# Altium footprint library CHIPFET.PcbLib: 1 footprints
Each footprint in its own frame and in the unit in brackets; x right, y up, seen from the top. Pads: shape width x height; smd on the part's side, far side on the other; paste and mask are expansions set on the pad; w line width, h text height; cw(c..) or ccw(c..) is an arc to the next point about the centre after c.
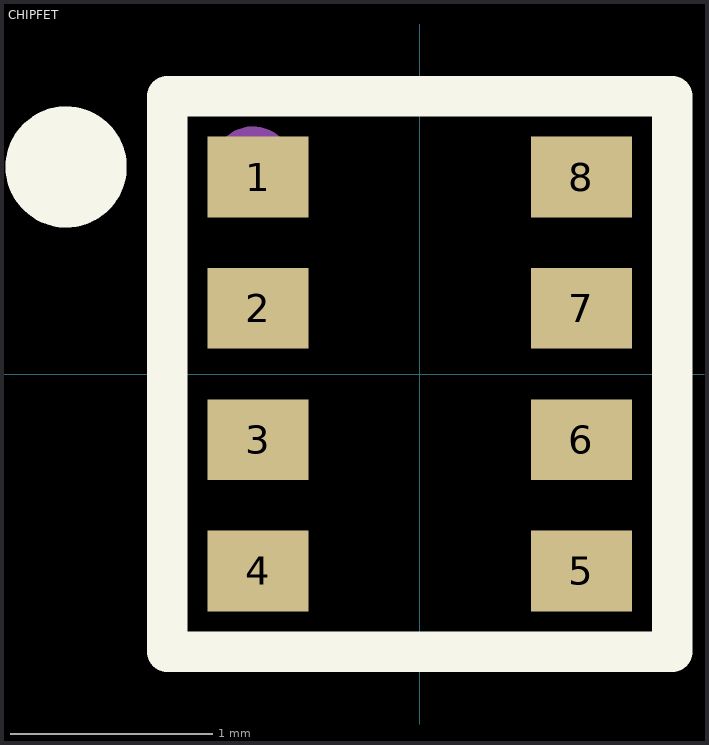
[diagram p0: the footprint, top view; thin cyan lines are the x and y axes]

## CHIPFET [mm]
pads (8):
  rect 0.5x0.4 smd: 1(-0.8,0.975) 2(-0.8,0.325) 3(-0.8,-0.325) 4(-0.8,-0.975) 5(0.8,-0.975) 6(0.8,-0.325) 7(0.8,0.325) 8(0.8,0.975)
Top Overlay:
  circle w0.3: c-1.75,1.025 r0.15
  lines w0.2: -1.25,-1.375 -1.25,1.375 1.25,1.375 1.25,-1.375 -1.25,-1.375
Top Assembly:
  circle w0.2: c-0.825,1.025 r0.1
  lines w0.1: -1.25,-1.375 -1.25,1.375 1.25,1.375 1.25,-1.375 -1.25,-1.375
  text "'.Designator'" at -0.925,-0.35 h0.7
3D body "User Library-ChipFet_1206.step": height 1.04, standoff -0.01, extent -0.95,-1.525 0.95,1.525